# Altium footprint library CoolantMonitor.PcbLib: 9 footprints
Each footprint in its own frame and in the unit in brackets; x right, y up, seen from the top. Pads: shape width x height; smd on the part's side, far side on the other; paste and mask are expansions set on the pad; w line width, h text height; cw(c..) or ccw(c..) is an arc to the next point about the centre after c.
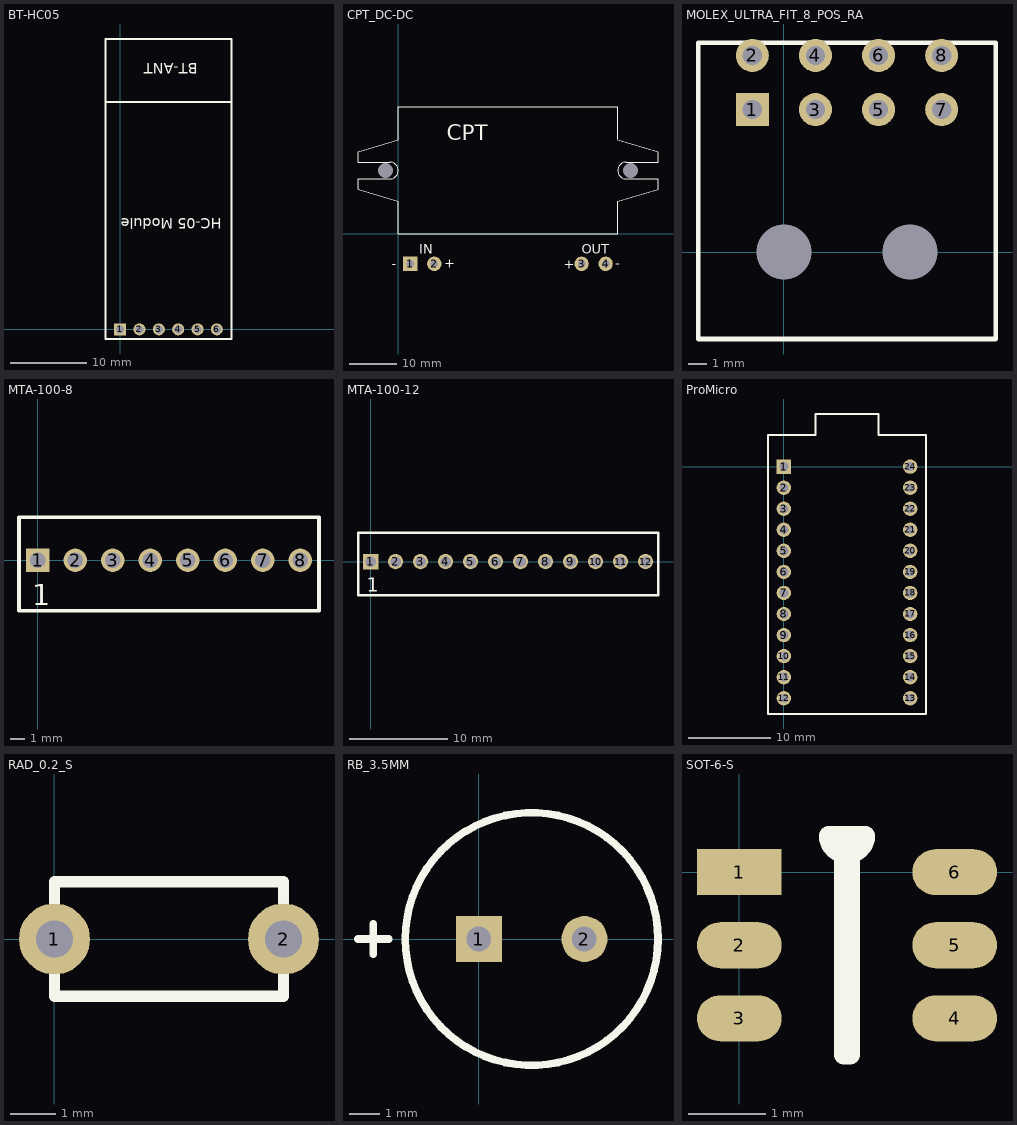
[diagram p0: the footprints below, top view; thin cyan lines are the x and y axes]

## BT-HC05 [mil]
pads (6):
  rect 62x62 hole 42: 1(0,0)
  round 62 hole 42: 2(100,0) 3(200,0) 4(300,0) 5(400,0) 6(500,0)
Top Overlay:
  lines w10: -75,1175 575,1175 ; -75,-50 -75,1500 575,1500 575,-50 -75,-50
  text "HC-05 Module" at 525,575 h55
  text "BT-ANT" at 400,1375 h55

## CPT_DC-DC [mil]
pads (6):
  rect 120x120 hole 62: 1(100,-250)
  round 120 hole 62: 2(300,-250) 3(1525,-250) 4(1725,-250)
  round 0 hole 125: ""(-108,527) ""(1932,527)
Top Overlay:
  lines w10: 1825,270 1825,0 0,0 0,272 -335,372 -335,457 -70,457.36 ccw(c-70,527) -70,596.64 -335,597 -335,682 0,782 0,1055 1825,1055 1825,785 ; 1826,272 2161,372 2161,457 1896,457.36 cw(c1896,527) 1896,596.64 2161,597 2161,682 1826,782
  text "CPT" at 402,780 h130
  text "IN" at 175,-168 h80
  text "OUT" at 1525,-168 h80
  text "+" at 382,-284 h80
  text "+" at 1375,-289 h80
  text "-" at -55,-285 h80
  text "-" at 1804,-284 h80

## MOLEX_ULTRA_FIT_8_POS_RA [mil] "Molex Ultra-Fit 8 pos"
pads (10):
  rect 72x72 hole 42: 1(-68.9,311.42)
  round 72 hole 42: 2(-68.9,429.53) 3(68.9,311.42) 4(68.9,429.53) 5(206.69,311.42) 6(206.69,429.53) 7(344.49,311.42) 8(344.49,429.53)
  round 0 hole 120.08: ""(0,0) ""(275.59,0)
Top Overlay:
  lines w10: -187.01,-189.57 462.6,-189.57 462.6,456.89 -187.01,456.89 -187.01,-189.57

## MTA-100-8 [mil]
pads (8):
  rect 62x62 hole 42: 1(0,0)
  round 62 hole 42: 2(100,0) 3(200,0) 4(300,0) 5(400,0) 6(500,0) 7(600,0) 8(700,0)
Top Overlay:
  lines w10: -50,-135 -50,115 750,115 750,-135 -50,-135
  text "1" at -15,-120 h55

## MTA-100-12 [mil]
pads (12):
  rect 62x62 hole 42: 1(0,0)
  round 62 hole 42: 2(100,0) 3(200,0) 4(300,0) 5(400,0) 6(500,0) 7(600,0) 8(700,0) 9(800,0) 10(900,0) 11(1000,0) 12(1100,0)
Top Overlay:
  lines w10: -50,-135 1150,-135 1150,115 -50,115 -50,-135
  text "1" at -15,-120 h55

## ProMicro [mil] "Adruino Pro Micro"
height 270
pads (24):
  rect 68x68 hole 42: 1(0,0)
  round 68 hole 42: 2(0,-100) 3(0,-200) 4(0,-300) 5(0,-400) 6(0,-500) 7(0,-600) 8(0,-700) 9(0,-800) 10(0,-900) 11(0,-1000) 12(0,-1100) 13(600,-1100) 14(600,-1000) 15(600,-900) 16(600,-800) 17(600,-700) 18(600,-600) 19(600,-500) 20(600,-400) 21(600,-300) 22(600,-200) 23(600,-100) 24(600,0)
Top Overlay:
  lines w10: -75,-1175 675,-1175 675,150 450,150 450,250 150,250 150,150 -75,150 -75,-1175

## RAD_0.2_S [mil]
pads (2):
  round 62 hole 32: 1(0,0) 2(200,0)
Top Overlay:
  lines w10: 0,-50 0,50 200,50 200,-50 0,-50

## RB_3.5MM [mil]
pads (2):
  rect 60x60 hole 32: 1(0,0)
  round 60 hole 32: 2(138,0)
Top Overlay:
  circle w10: c69,0 r165
  lines w10: -157.8,0 -117.8,0 ; -137.8,-20 -137.8,20

## SOT-6-S [mm]
pads (6):
  rect 1.1x0.6 smd: 1(0,0)
  oval 1.1x0.6 smd: 2(0,-0.95) 3(0,-1.9) 4(2.8,-1.9) 5(2.8,-0.95) 6(2.8,0)
Top Overlay:
  lines w0.254: 1.162,0.475 ccw(c1.4,0.475) 1.637,0.475 1.361,0.475 1.361,-2.375 1.439,-2.375 1.439,0.475 1.162,0.475